# EAGLE library part JSPHS-12 (library ic)
JSPHS-12 Phase shifter 8-12MHz (Mini-Circuits) 0-180° phase shift, 0dBm (225mV) input 0-15V control voltage, 50kHz control bandwidth
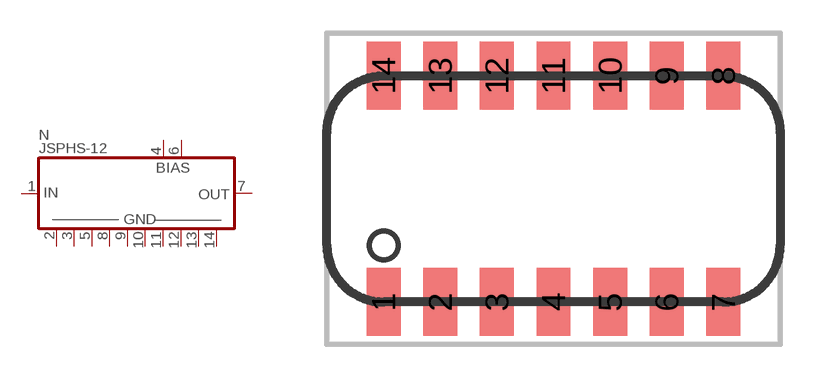
[diagram p42: symbol with the pads of MC-BK276; footprint MC-BK276]

Designator prefix N

## JSPHS-12  [MC-BK276]
1  IN
2  GND  pwr
3  GND  pwr
4  BIAS  in
5  GND  pwr
6  BIAS  in
7  OUT
8  GND  pwr
9  GND  pwr
10  GND  pwr
11  GND  pwr
12  GND  pwr
13  GND  pwr
14  GND  pwr

## Footprint MC-BK276 (pad centres in mm)
Mini-Circuits BK276 SMD Metal case (20*10mm), 14 pins
smd 1.524 x 3.048: 1 -7.62,-5.08; 2 -5.08,-5.08; 3 -2.54,-5.08; 4 0,-5.08; 5 2.54,-5.08; 6 5.08,-5.08; 7 7.62,-5.08; 8 7.62,5.08; 9 5.08,5.08; 10 2.54,5.08; 11 0,5.08; 12 -2.54,5.08; 13 -5.08,5.08; 14 -7.62,5.08